# EAGLE library part ESP32-WROOM (library ESP32)
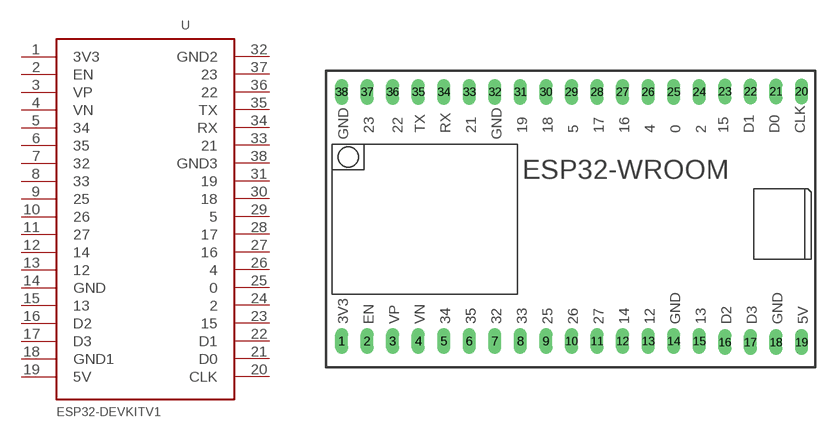
[diagram p1: symbol with the pads of ESP32-WROOM; footprint ESP32-WROOM]

Designator prefix -

## ESP32-WROOM  [ESP32-WROOM]
1  3V3  pwr
2  EN
3  VP
4  VN
5  34
6  35
7  32
8  33
9  25
10  26
11  27
12  14
13  12
14  GND
15  13
16  D2
17  D3
18  GND1
19  5V
20  CLK
21  D0
22  D1
23  15
24  2
25  0
26  4
27  16
28  17
29  5
30  18
31  19
32  GND2
33  21
34  RX
35  TX
36  22
37  23
38  GND3

## Footprint ESP32-WROOM (pad centres in mm)
drill 0.787 long: 1 -22.87,-11.953; 2 -20.33,-11.953; 3 -17.79,-11.953; 4 -15.25,-11.953; 5 -12.71,-11.953; 6 -10.17,-11.953; 7 -7.63,-11.953; 8 -5.09,-11.953; 9 -2.55,-11.953; 10 -0.01,-11.953; 11 2.53,-11.953; 12 5.07,-11.953; 13 7.61,-11.953; 14 10.15,-11.953; 15 12.69,-11.953; 16 15.24,-12.065; 17 17.78,-12.065; 18 20.32,-12.065; 19 22.86,-12.065; 20 22.86,12.859; 21 20.32,12.859; 22 17.78,12.859; 23 15.24,12.859; 24 12.69,12.818; 25 10.15,12.818; 26 7.61,12.818; 27 5.07,12.818; 28 2.53,12.818; 29 -0.01,12.818; 30 -2.55,12.818; 31 -5.09,12.818; 32 -7.63,12.818; 33 -10.17,12.818; 34 -12.71,12.818; 35 -15.25,12.818; 36 -17.79,12.818; 37 -20.33,12.818; 38 -22.87,12.818